# Altium schematic symbol library Fuse_Glass_Sch.SchLib: 2 symbols
Pins are listed as number, name and electrical type; pins without a type are passive.

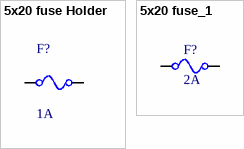
[diagram p0: symbols 5x20 fuse Holder to 5x20 fuse_1]

## 5x20 fuse Holder
designator F?, comment 1A
FUSE BRASS 5x20 10A 250V; ComponentLink1Description: Link; ComponentLink1URL: *; Value: 1A
footprint 5x20 fuse holder clip R3-5A
pins: 1, 2

## 5x20 fuse_1
designator F?, comment 2A
5x20 fuse holder clip; Value: 2A
footprint L-KLS5-2611
pins: 1, 2